# EAGLE library part CS12011A-1 (library saha-aux)
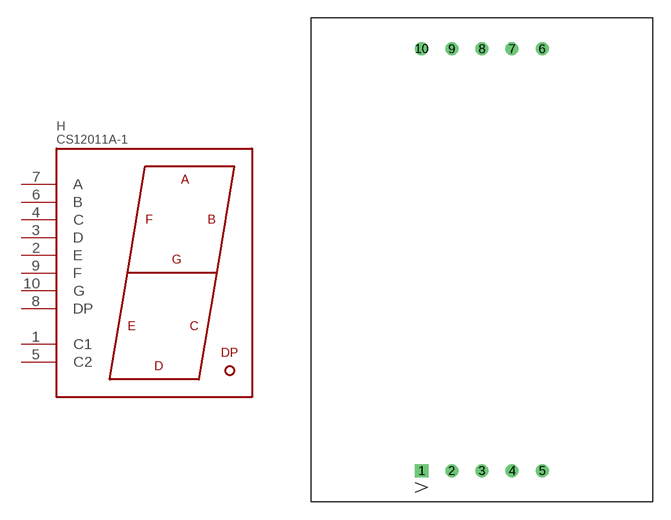
[diagram p1: symbol with the pads of 7-SEGMENT-1.2INCH; footprint 7-SEGMENT-1.2INCH]

Designator prefix H

## CS12011A-1  [7-SEGMENT-1.2INCH]
1  C1
2  E
3  D
4  C
5  C2
6  B
7  A
8  DP
9  F
10  G

## Footprint 7-SEGMENT-1.2INCH (pad centres in mm)
drill 0.6 square: 1 -5.08,-17.78
drill 0.6: 2 -2.54,-17.78; 3 0,-17.78; 4 2.54,-17.78; 5 5.08,-17.78; 6 5.08,17.78; 7 2.54,17.78; 8 0,17.78; 9 -2.54,17.78; 10 -5.08,17.78